# EAGLE library part ATMEGA256RFR2 (library smight)
ATmega256RFR2
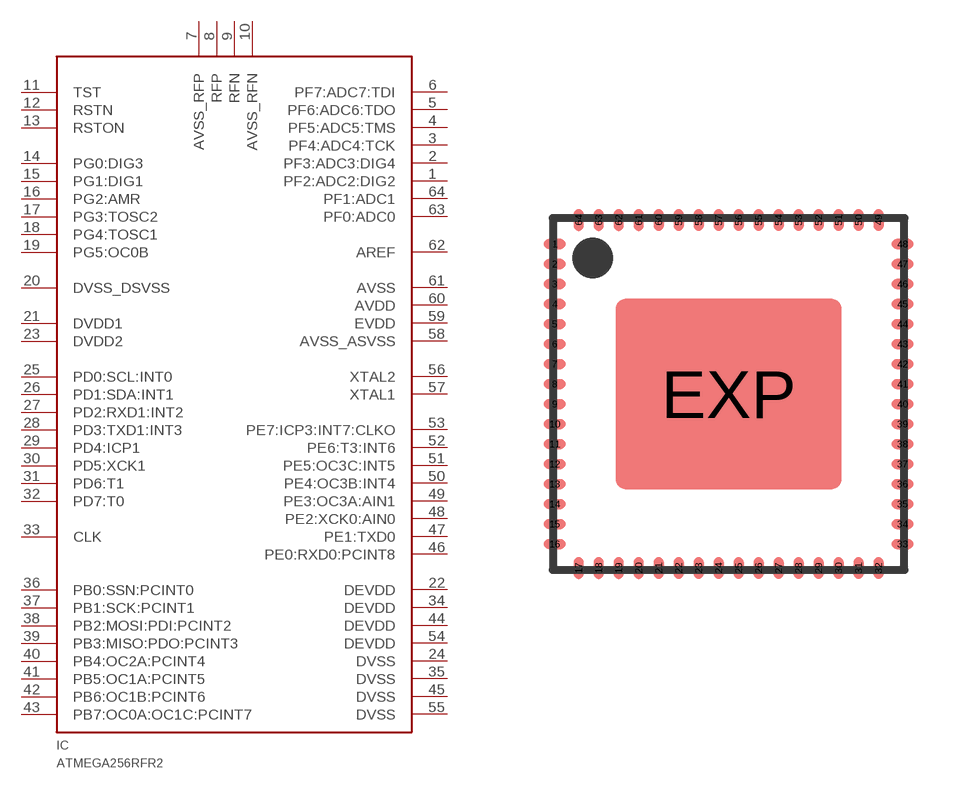
[diagram p0: symbol with the pads of QFN64-9X9; footprint QFN64-9X9]

Designator prefix IC

## ATMEGA256RFR2QFN64-9X9  [QFN64-9X9]
1  PF2:ADC2:DIG2
2  PF3:ADC3:DIG4
3  PF4:ADC4:TCK
4  PF5:ADC5:TMS
5  PF6:ADC6:TDO
6  PF7:ADC7:TDI
7  AVSS_RFP
8  RFP
9  RFN
10  AVSS_RFN
11  TST
12  RSTN
13  RSTON
14  PG0:DIG3
15  PG1:DIG1
16  PG2:AMR
17  PG3:TOSC2
18  PG4:TOSC1
19  PG5:OC0B
20  DVSS_DSVSS
21  DVDD1
22  DEVDD
23  DVDD2
24  DVSS
25  PD0:SCL:INT0
26  PD1:SDA:INT1
27  PD2:RXD1:INT2
28  PD3:TXD1:INT3
29  PD4:ICP1
30  PD5:XCK1
31  PD6:T1
32  PD7:T0
33  CLK
34  DEVDD
35  DVSS
36  PB0:SSN:PCINT0
37  PB1:SCK:PCINT1
38  PB2:MOSI:PDI:PCINT2
39  PB3:MISO:PDO:PCINT3
40  PB4:OC2A:PCINT4
41  PB5:OC1A:PCINT5
42  PB6:OC1B:PCINT6
43  PB7:OC0A:OC1C:PCINT7
44  DEVDD
45  DVSS
46  PE0:RXD0:PCINT8
47  PE1:TXD0
48  PE2:XCK0:AIN0
49  PE3:OC3A:AIN1
50  PE4:OC3B:INT4
51  PE5:OC3C:INT5
52  PE6:T3:INT6
53  PE7:ICP3:INT7:CLKO
54  DEVDD
55  DVSS
56  XTAL2
57  XTAL1
58  AVSS_ASVSS
59  EVDD
60  AVDD
61  AVSS
62  AREF
63  PF0:ADC0
64  PF1:ADC1

## Footprint QFN64-9X9 (pad centres in mm)
QFN64-9X9 Source: http://www.gennum.com/video/pdf/36655DOC.pdf
smd 0.55 x 0.25: 1 -4.35,3.75; 2 -4.35,3.25; 3 -4.35,2.75; 4 -4.35,2.25; 5 -4.35,1.75; 6 -4.35,1.25; 7 -4.35,0.75; 8 -4.35,0.25; 9 -4.35,-0.25; 10 -4.35,-0.75; 11 -4.35,-1.25; 12 -4.35,-1.75; 13 -4.35,-2.25; 14 -4.35,-2.75; 15 -4.35,-3.25; 16 -4.35,-3.75; 33 4.35,-3.75; 34 4.35,-3.25; 35 4.35,-2.75; 36 4.35,-2.25; 37 4.35,-1.75; 38 4.35,-1.25; 39 4.35,-0.75; 40 4.35,-0.25; 41 4.35,0.25; 42 4.35,0.75; 43 4.35,1.25; 44 4.35,1.75; 45 4.35,2.25; 46 4.35,2.75; 47 4.35,3.25; 48 4.35,3.75
smd 0.25 x 0.55: 17 -3.75,-4.35; 18 -3.25,-4.35; 19 -2.75,-4.35; 20 -2.25,-4.35; 21 -1.75,-4.35; 22 -1.25,-4.35; 23 -0.75,-4.35; 24 -0.25,-4.35; 25 0.25,-4.35; 26 0.75,-4.35; 27 1.25,-4.35; 28 1.75,-4.35; 29 2.25,-4.35; 30 2.75,-4.35; 31 3.25,-4.35; 32 3.75,-4.35; 49 3.75,4.35; 50 3.25,4.35; 51 2.75,4.35; 52 2.25,4.35; 53 1.75,4.35; 54 1.25,4.35; 55 0.75,4.35; 56 0.25,4.35; 57 -0.25,4.35; 58 -0.75,4.35; 59 -1.25,4.35; 60 -1.75,4.35; 61 -2.25,4.35; 62 -2.75,4.35; 63 -3.25,4.35; 64 -3.75,4.35
smd 5.65 x 4.75: EXP 0,0